# EAGLE library part 738-116 (library con-wago_738)
Serie 738, Vierstock-Klemmenleiste für Leiterplatten 4 Lötstifte in Reihe / Series 738, Quadruple-deck PCB terminal strip 4 solder pins, in line Polzahl / Pole No.: 16 Rastermaß / Pitch: 5 mm Bemessungsspannung / Rated Voltage: 320 V Nennstrom / Nominal Current: 18 A Leiterquerschnitt / Conductor Size: 0.08 - 2.5 mm² Anschlusstechnik / Connection Technology: CAGE CLAMP® Lötstiftlänge: / Solder Pin Length: 4 mm Leitereinführung (zur Platine) / Conductor entry angle (to PCB): 45 ° Farbe / Color: grau / gray Stand: 01.01.2012. Die jeweils aktuellen Daten zu diesem Artikel finden Sie in unserem Produktkatalog, den Sie unter www.wago.com einsehen können. As of: 01/01/2012. Please find the newest data for this article in our product catalogue, which can be viewed under www.wago.com.
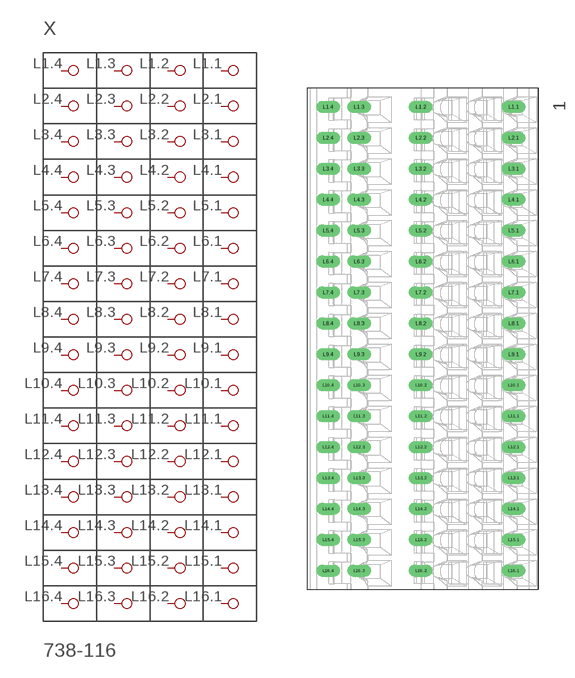
[diagram p6: symbol with the pads of P-738-116; footprint P-738-116]

Designator prefix X

## 738-116  [P-738-116]
L1.1  P1.1
L1.2  P1.2
L1.3  P1.3
L1.4  P1.4
L2.1  P2.1
L2.2  P2.2
L2.3  P2.3
L2.4  P2.4
L3.1  P3.1
L3.2  P3.2
L3.3  P3.3
L3.4  P3.4
L4.1  P4.1
L4.2  P4.2
L4.3  P4.3
L4.4  P4.4
L5.1  P5.1
L5.2  P5.2
L5.3  P5.3
L5.4  P5.4
L6.1  P6.1
L6.2  P6.2
L6.3  P6.3
L6.4  P6.4
L7.1  P7.1
L7.2  P7.2
L7.3  P7.3
L7.4  P7.4
L8.1  P8.1
L8.2  P8.2
L8.3  P8.3
L8.4  P8.4
L9.1  P9.1
L9.2  P9.2
L9.3  P9.3
L9.4  P9.4
L10.1  P10.1
L10.2  P10.2
L10.3  P10.3
L10.4  P10.4
L11.1  P11.1
L11.2  P11.2
L11.3  P11.3
L11.4  P11.4
L12.1  P12.1
L12.2  P12.2
L12.3  P12.3
L12.4  P12.4
L13.1  P13.1
L13.2  P13.2
L13.3  P13.3
L13.4  P13.4
L14.1  P14.1
L14.2  P14.2
L14.3  P14.3
L14.4  P14.4
L15.1  P15.1
L15.2  P15.2
L15.3  P15.3
L15.4  P15.4
L16.1  P16.1
L16.2  P16.2
L16.3  P16.3
L16.4  P16.4

## Footprint P-738-116 (pad centres in mm)
drill 1.3 long: L1.1 14.685,37.5; L1.2 -0.315,37.5; L1.3 -10.315,37.5; L1.4 -15.315,37.5; L2.1 14.685,32.5; L2.2 -0.315,32.5; L2.3 -10.315,32.5; L2.4 -15.315,32.5; L3.1 14.685,27.5; L3.2 -0.315,27.5; L3.3 -10.315,27.5; L3.4 -15.315,27.5; L4.1 14.685,22.5; L4.2 -0.315,22.5; L4.3 -10.315,22.5; L4.4 -15.315,22.5; L5.1 14.685,17.5; L5.2 -0.315,17.5; L5.3 -10.315,17.5; L5.4 -15.315,17.5; L6.1 14.685,12.5; L6.2 -0.315,12.5; L6.3 -10.315,12.5; L6.4 -15.315,12.5; L7.1 14.685,7.5; L7.2 -0.315,7.5; L7.3 -10.315,7.5; L7.4 -15.315,7.5; L8.1 14.685,2.5; L8.2 -0.315,2.5; L8.3 -10.315,2.5; L8.4 -15.315,2.5; L9.1 14.685,-2.5; L9.2 -0.315,-2.5; L9.3 -10.315,-2.5; L9.4 -15.315,-2.5; L10.1 14.685,-7.5; L10.2 -0.315,-7.5; L10.3 -10.315,-7.5; L10.4 -15.315,-7.5; L11.1 14.685,-12.5; L11.2 -0.315,-12.5; L11.3 -10.315,-12.5; L11.4 -15.315,-12.5; L12.1 14.685,-17.5; L12.2 -0.315,-17.5; L12.3 -10.315,-17.5; L12.4 -15.315,-17.5; L13.1 14.685,-22.5; L13.2 -0.315,-22.5; L13.3 -10.315,-22.5; L13.4 -15.315,-22.5; L14.1 14.685,-27.5; L14.2 -0.315,-27.5; L14.3 -10.315,-27.5; L14.4 -15.315,-27.5; L15.1 14.685,-32.5; L15.2 -0.315,-32.5; L15.3 -10.315,-32.5; L15.4 -15.315,-32.5; L16.1 14.685,-37.5; L16.2 -0.315,-37.5; L16.3 -10.315,-37.5; L16.4 -15.315,-37.5